# EAGLE library part ADF7025_BOARD (library harrison)
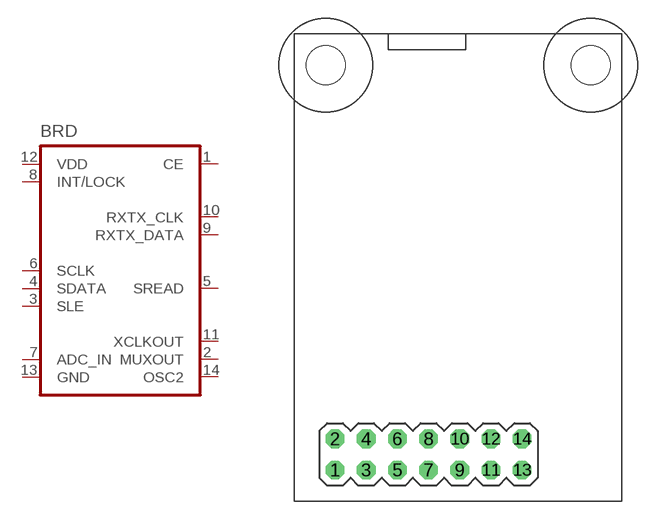
[diagram p24: symbol with the pads of ADF7025_BOARD; footprint ADF7025_BOARD]

Designator prefix BRD

## ADF7025_BOARD  [ADF7025_BOARD]
1  CE  in
2  MUXOUT  out
3  SLE  in
4  SDATA  in
5  SREAD  out
6  SCLK  in
7  ADC_IN  in
8  INT/LOCK
9  RXTX_DATA  out
10  RXTX_CLK  out
11  XCLKOUT  out
12  VDD  pwr
13  GND  pwr
14  OSC2  out

## Footprint ADF7025_BOARD (pad centres in mm)
drill 1.016 octagon: 1 3.302,2.54; 2 3.302,5.08; 3 5.842,2.54; 4 5.842,5.08; 5 8.382,2.54; 6 8.382,5.08; 7 10.922,2.54; 8 10.922,5.08; 9 13.462,2.54; 10 13.462,5.08; 11 16.002,2.54; 12 16.002,5.08; 13 18.542,2.54; 14 18.542,5.08
hole 3.2 at 2.54,35.56
hole 3.2 at 24.13,35.56